# Altium schematic symbol library L7805CV-DG_TO-220_.SchLib: 1 symbol
Pins are listed as number, name and electrical type; pins without a type are passive.

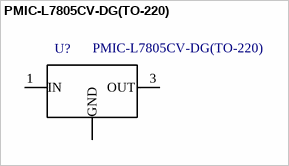
[diagram p0: symbol PMIC-L7805CV-DG(TO-220)]

## PMIC-L7805CV-DG(TO-220)
designator U?
L7805 Series 1.5 A 5 V Three Terminal Voltage Regulator - TO-220; MF: STMicroelectronics; SnapEDA_Link: https://www.snapeda.com/parts/L7805CV-DG/STMicroelectronics/view-part/?ref=snap; Price: None; MP: L7805CV-DG; Availability: Unavailable; Package: TO-220 STMicroelectronics; Value: *
footprint TO-220_PMIC-L7805CV-DG(TO-220)(Primary)
pins: 1 IN (io), 2 GND (io), 3 OUT (io), HEAT GND (io)